# Altium footprint library SAS1-9046-B.PcbLib: 1 footprints
Each footprint in its own frame and in the unit in brackets; x right, y up, seen from the top. Pads: shape width x height; smd on the part's side, far side on the other; paste and mask are expansions set on the pad; w line width, h text height; cw(c..) or ccw(c..) is an arc to the next point about the centre after c.
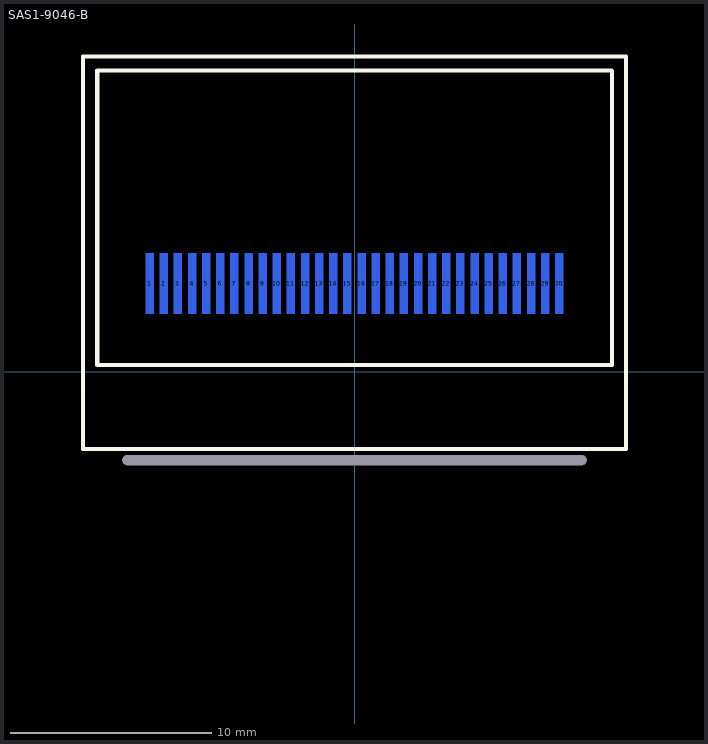
[diagram p0: the footprint, top view; thin cyan lines are the x and y axes]

## SAS1-9046-B [mm] "Body26.7x19.26mm , Pitch 0.70mm,  High 1.45(mm)"
height 1.45
pads (31):
  rect 0x0 hole 0.5 slot 23 at 0 deg unplated mask+0.05: 0(0,-4.375)
  rect 0.4x3 smd far side: 1(-10.15,4.375) 2(-9.45,4.375) 3(-8.75,4.375) 4(-8.05,4.375) 5(-7.35,4.375) 6(-6.65,4.375) 7(-5.95,4.375) 8(-5.25,4.375) 9(-4.55,4.375) 10(-3.85,4.375) 11(-3.15,4.375) 12(-2.45,4.375) 13(-1.75,4.375) 14(-1.05,4.375) 15(-0.35,4.375) 16(0.35,4.375) 17(1.05,4.375) 18(1.75,4.375) 19(2.45,4.375) 20(3.15,4.375) 21(3.85,4.375) 22(4.55,4.375) 23(5.25,4.375) 24(5.95,4.375) 25(6.65,4.375) 26(7.35,4.375) 27(8.05,4.375) 28(8.75,4.375) 29(9.45,4.375) 30(10.15,4.375)
Top Overlay:
  lines w0.2: -13.45,-3.825 13.45,-3.825 13.45,15.635 -13.45,15.635 -13.45,-3.798 ; 12.725,0.336 -12.75,0.336 -12.75,14.936 12.733,14.936 ; 12.75,0.336 12.75,14.919
Bottom Overlay:
  circle w0.25: c-11.3,4.375 r0.125
  lines w0.2: -11.256,5.375 -10.65,5.375 ; 10.65,5.375 11.255,5.375
Mechanical 13:
  lines w0.1: -13.494,-3.828 -13.494,15.661 13.443,15.661 13.443,-3.828 -13.494,-3.828
Mechanical 15:
  lines w0.1: -13.501,-3.828 -6.766,-3.828 13.437,-3.828 13.437,15.661 -13.501,15.661 -13.501,-3.828
3D body: height 2.23, standoff -0.62, extent -13.36,-4.323 13.34,15.361